# Altium footprint library My_Custom.PcbLib: 12 footprints
Each footprint in its own frame and in the unit in brackets; x right, y up, seen from the top. Pads: shape width x height; smd on the part's side, far side on the other; paste and mask are expansions set on the pad; w line width, h text height; cw(c..) or ccw(c..) is an arc to the next point about the centre after c.
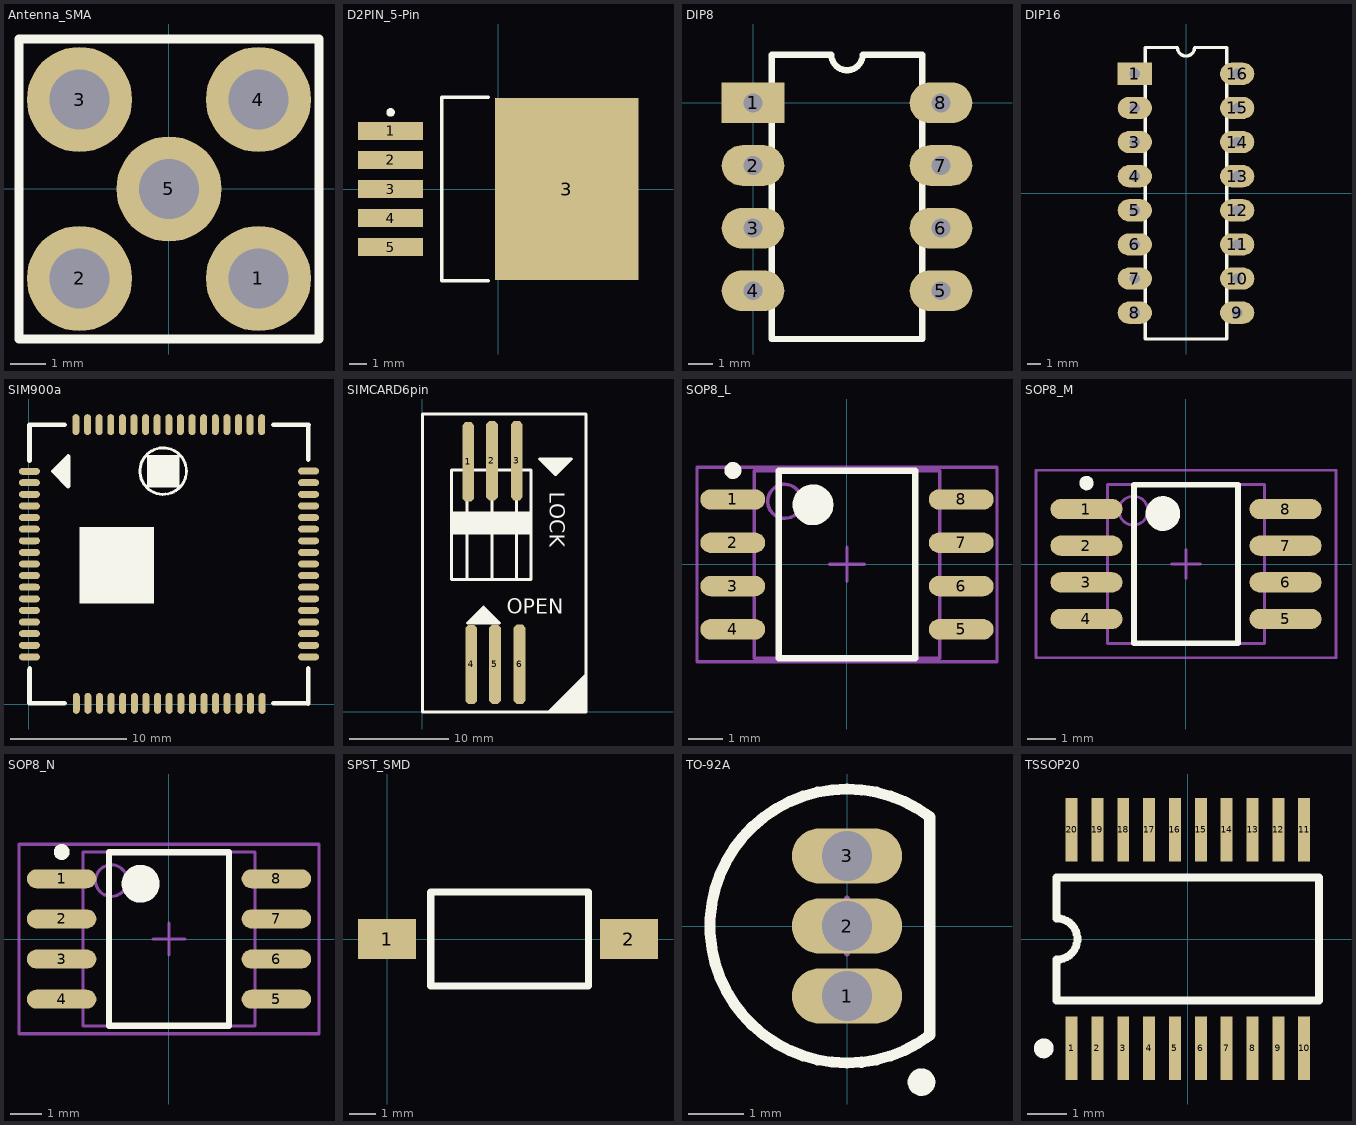
[diagram p0: the footprints below, top view; thin cyan lines are the x and y axes]

## Antenna_SMA [mm]
pads (5):
  round 3 hole 1.7: 1(2.55,-2.55) 2(-2.55,-2.55) 3(-2.55,2.55) 4(2.55,2.55) 5(0,0)
Top Overlay:
  lines w0.254: -4.275,-4.275 4.275,-4.275 4.275,4.275 -4.275,4.275 -4.275,-4.275
3D body "TE_5-1814832-1.STEP": height 9.5, standoff -4, extent -3.2,-3.2 3.2,3.2

## D2PIN_5-Pin [mm]
pads (6):
  rect 3.8x1.05 smd: 1(-6.3,3.4) 2(-6.3,1.7) 3(-6.3,0) 4(-6.3,-1.7) 5(-6.3,-3.4)
  rect 8.4x10.65 smd: 3(4,0)
Top Overlay:
  circle w0.25: c-6.3,4.475 r0.125
  lines w0.2: -0.6,-5.35 -3.3,-5.35 -3.3,5.35 -0.6,5.35
3D body "SW3dPS-TO263-5.STEP": height 4.68, standoff -0.12, extent -7.515,-4.975 8.155,5.025

## DIP8 [mil]
pads (8):
  rect 100x65 hole 30: 1(0,0)
  oval 100x65 hole 30: 2(0,-100) 3(0,-200) 4(0,-300) 5(300,-300) 6(300,-200) 7(300,-100) 8(300,0)
Top Overlay:
  lines w10: 30,-377 30,77 125,77 ccw(c150,77) 175,77 270,77 270,-377 30,-377
3D body "SW3DPS-DIP8-DEFAULT.step": height 165, standoff -105, extent -5,-375 305,75

## DIP16 [mil]
pads (16):
  rect 100x65 hole 30: 1(-150,350)
  oval 100x65 hole 30: 2(-150,250) 3(-150,150) 4(-150,50) 5(-150,-50) 6(-150,-150) 7(-150,-250) 8(-150,-350) 9(150,-350) 10(150,-250) 11(150,-150) 12(150,-50) 13(150,50) 14(150,150) 15(150,250) 16(150,350)
Top Overlay:
  lines w10: -120,-427 -120,427 -25,427 ccw(c0,427) 25,427 120,427 120,-427 -120,-427
3D body "SW3dPS-DIP16-300.step": height 200, standoff -98.03, extent -154.92,-393.7 154.92,393.7

## SIM900a [mm]
height 24
pads (68):
  oval 1.8x0.6 smd mask+0.102: 1(0.05,20.046) 2(0.05,19.065) 3(0.05,18.065) 4(0.05,17.065) 5(0.05,16.065) 6(0.05,15.065) 7(0.05,14.065) 8(0.05,13.065) 9(0.05,12.065) 10(0.05,11.065) 11(0.05,10.065) 12(0.05,9.065) 13(0.05,8.065) 14(0.05,7.065) 15(0.05,6.065) 16(0.05,5.065) 17(0.05,4.065) 35(24.08,4.065) 36(24.08,5.065) 37(24.08,6.065) 38(24.08,7.065) 39(24.08,8.065) 40(24.08,9.065) 41(24.08,10.065) 42(24.08,11.065) 43(24.08,12.065) 44(24.08,13.065) 45(24.08,14.059) 46(24.08,15.065) 47(24.08,16.065) 48(24.08,17.065) 49(24.08,18.065) 50(24.08,19.065) 51(24.08,20.065)
  oval 0.6x1.8 smd mask+0.102: 18(4.08,0.065) 19(5.08,0.065) 20(6.08,0.065) 21(7.081,0.065) 22(8.081,0.065) 23(9.081,0.065) 24(10.081,0.065) 25(11.081,0.065) 26(12.081,0.065) 27(13.081,0.065) 28(14.081,0.065) 29(15.081,0.065) 30(16.081,0.065) 31(17.075,0.065) 32(18.081,0.065) 33(19.081,0.065) 34(20.081,0.065) 52(20.05,24.065) 53(19.05,24.065) 54(18.05,24.065) 55(17.05,24.065) 56(16.05,24.065) 57(15.05,24.065) 58(14.05,24.065) 59(13.049,24.065) 60(12.049,24.065) 61(11.049,24.065) 62(10.049,24.065) 63(9.049,24.065) 64(8.049,24.065) 65(7.049,24.065) 66(6.049,24.065) 67(5.049,24.065) 68(4.049,24.065)
Top Overlay:
  circle w0.254: c11.565,20.065 r2
  rectangle: 4.365,8.665 10.765,15.265
  rectangle: 10.165,18.665 12.965,21.465
  lines w0.4: 0.05,2.965 0.05,0.065 3.065,0.065 ; 0.05,20.965 0.05,24.065 3.065,24.065 0.065,24.065 0.065,21.065 ; 0.065,0.08 0.065,3.065 ; 2.632,19.539 2.632,20.505 ; 3.019,19.164 3.019,20.942 ; 3.394,20.047 2.124,20.047 ; 21.065,0.065 24.05,0.065 24.05,2.965 ; 24.031,24.065 21.065,24.065 24.08,24.065 ; 24.05,21.165 24.05,24.065 ; 24.065,0.05 24.065,3.065 ; 24.065,21.065 24.065,24.05 ; 2.124,20.047 3.394,18.777 3.394,21.317 2.124,20.047 ; 4.781,9.265 10.38,9.265 10.38,14.865 4.781,14.865 4.781,9.265
3D body "User Library-SIM900.STEP": height 3.02, standoff 0, extent 0.04,0.065 24.04,24.065

## SIMCARD6pin [mm]
height 7.1
pads (6):
  oct 1.2x8 smd: 1(4.637,25.173) 2(7.015,25.297) 3(9.515,25.297) 4(4.937,4.773) 5(7.315,4.797) 6(9.815,4.797)
Top Overlay:
  region: 11.016,17.864 11.016,20.165 2.964,20.165 2.964,17.864
  region: 16.513,-0.003 16.513,2.673 15.337,2.673 15.337,-0.003
  region: 15.717,-0.003 15.717,1.673 14.317,1.673 14.317,-0.003
  region: 14.537,-0.003 14.537,0.773 13.337,0.773 13.337,-0.003
  region: 16.513,2.573 16.513,3.373 15.937,3.373 15.937,2.573
  region: 16.237,2.473 16.237,2.973 15.537,2.973 15.537,2.473
  region: 16.037,2.873 16.037,3.073 15.837,3.073 15.837,2.873
  region: 16.513,3.353 16.513,3.477 16.237,3.477 16.237,3.353
  region: 15.637,1.593 15.637,2.193 14.737,2.193 14.737,1.593
  region: 15.537,2.093 15.537,2.493 15.037,2.493 15.037,2.093
  region: 14.937,1.493 14.937,1.817 14.537,1.817 14.537,1.493
  region: 14.937,1.797 14.937,1.897 14.637,1.897 14.637,1.797
  region: 13.637,-0.003 13.637,0.473 13.037,0.473 13.037,-0.003
  region: 14.437,0.473 14.437,1.173 13.937,1.173 13.937,0.473
  region: 14.137,0.553 14.137,0.953 13.637,0.953 13.637,0.553
  region: 14.537,0.773 14.537,1.473 14.213,1.473 14.213,0.773
  region: 14.213,0.773 14.213,1.297 14.037,1.297 14.037,0.773
  region: 14.037,0.753 14.037,1.053 13.813,1.053 13.813,0.753
  lines w0.254: 12.737,-0.003 16.513,3.773 ; 12.837,-0.003 12.861,-0.003
  lines w0.3: 4.512,13.346 4.512,24.346 ; 5.012,9.161 7.313,9.161 6.263,10.211 6.113,10.211 5.213,9.311 ; 5.363,9.311 6.813,9.311 ; 5.613,9.511 6.663,9.511 6.713,9.561 ; 5.663,9.661 6.263,9.661 6.363,9.761 ; 5.863,9.811 6.163,9.811 6.213,9.861 ; 6.063,10.011 6.113,10.011 ; 6.263,9.961 6.563,9.661 ; 7.013,13.346 7.013,24.346 ; 9.513,13.346 9.513,24.346 ; 12.761,25.135 14.211,25.135 ; 12.861,24.885 12.911,24.935 13.961,24.935 ; 13.011,24.785 13.311,24.485 ; 13.211,24.685 13.311,24.785 13.911,24.785 ; 13.361,24.585 13.411,24.635 13.711,24.635 ; 13.461,24.435 13.511,24.435 ; 14.361,25.135 13.461,24.235 13.311,24.235 12.261,25.285 14.562,25.285 ; 0.013,-0.003 16.513,-0.003 16.513,29.997 0.013,29.997 0.013,-0.003 ; 2.964,13.346 10.964,13.346 10.964,24.346 2.964,24.346 2.964,13.346 ; 4.562,8.961 7.763,8.961 6.163,10.562 4.562,8.961 ; 11.811,25.485 13.411,23.884 15.012,25.485 11.811,25.485
  text "OPEN" at 8.509,9.906 h1.52
  text "LOCK" at 12.837,22.173 h1.52

## SOP8_L [mm] "SOP, 8-Leads, Body 5.3x5.3mm, Pitch 1.27mm, IPC High Density"
height 2.16
pads (8):
  oval 1.9x0.6 smd: 1(-3.35,1.905) 2(-3.35,0.635) 3(-3.35,-0.635) 4(-3.35,-1.905) 5(3.35,-1.905) 6(3.35,-0.635) 7(3.35,0.635) 8(3.35,1.905)
Top Overlay:
  circle w0.6: c-1,1.75 r0.3
  circle w0.25: c-3.35,2.755 r0.125
  lines w0.2: -2,-2.75 2,-2.75 2,2.75 -2,2.75 -2,-2.75
Mechanical 13:
  circle w0.1: c-1.825,1.85 r0.5
  lines w0.1: -2.725,-2.75 2.725,-2.75 2.725,2.75 -2.725,2.75 -2.725,-2.75
Mechanical 15:
  lines w0.1: -0.5,0 0.5,0 ; 0,-0.5 0,0.5 ; -4.4,-2.85 4.4,-2.85 4.4,2.85 -4.4,2.85 -4.4,-2.85
3D body "User Library-SOP8.STEP": height 1.75, standoff 0, extent -3.1,-2.5 3.1,2.5

## SOP8_M [mm] "SOP, 8-Leads, Body 5.3x5.3mm, Pitch 1.27mm, IPC Low Density"
height 2.16
pads (8):
  oval 2.5x0.7 smd: 1(-3.45,1.905) 2(-3.45,0.635) 3(-3.45,-0.635) 4(-3.45,-1.905) 5(3.45,-1.905) 6(3.45,-0.635) 7(3.45,0.635) 8(3.45,1.905)
Top Overlay:
  circle w0.25: c-3.45,2.805 r0.125
  circle w0.6: c-0.8,1.75 r0.3
  lines w0.2: -1.8,-2.75 -1.8,2.75 1.8,2.75 1.8,-2.75 -1.8,-2.75
Mechanical 13:
  circle w0.1: c-1.825,1.85 r0.5
  lines w0.1: -2.725,-2.75 -2.725,2.75 2.725,2.75 2.725,-2.75 -2.725,-2.75
Mechanical 15:
  lines w0.1: -0.5,0 0.5,0 ; 0,-0.5 0,0.5 ; -5.2,-3.25 -5.2,3.25 5.2,3.25 5.2,-3.25 -5.2,-3.25
3D body "User Library-SOP8.STEP": height 1.75, standoff 0, extent -3.1,-2.5 3.1,2.5

## SOP8_N [mm] "SOP, 8-Leads, Body 5.3x5.3mm, Pitch 1.27mm, IPC Medium Density"
height 2.16
pads (8):
  oval 2.2x0.6 smd: 1(-3.4,1.905) 2(-3.4,0.635) 3(-3.4,-0.635) 4(-3.4,-1.905) 5(3.4,-1.905) 6(3.4,-0.635) 7(3.4,0.635) 8(3.4,1.905)
Top Overlay:
  circle w0.25: c-3.4,2.755 r0.125
  circle w0.6: c-0.9,1.75 r0.3
  lines w0.2: -1.9,-2.75 -1.9,2.75 1.9,2.75 1.9,-2.75 -1.9,-2.75
Mechanical 13:
  circle w0.1: c-1.825,1.85 r0.5
  lines w0.1: -2.725,-2.75 -2.725,2.75 2.725,2.75 2.725,-2.75 -2.725,-2.75
Mechanical 15:
  lines w0.1: -0.5,0 0.5,0 ; 0,-0.5 0,0.5 ; -4.75,-3 -4.75,3 4.75,3 4.75,-3 -4.75,-3
3D body "User Library-SOP8.STEP": height 1.75, standoff 0, extent -3.1,-2.5 3.1,2.5

## SPST_SMD [mm]
pads (2):
  rect 2.2x1.52 smd: 1(0,0) 2(9.144,0)
Top Overlay:
  lines w0.271: 1.651,-1.778 1.651,1.778 7.62,1.778 7.62,-1.778 1.651,-1.778

## TO-92A [mm]
pads (3):
  oval 2x1 hole 0.9: 1(0,-1.27) 2(0,0) 3(0,1.27)
Top Overlay:
  circle w0.25: c1.35,-2.83 r0.125
  lines w0.2: 1.5,-1.98 cw(c0,0) 1.5,1.98 1.5,-1.98
Mechanical 13:
  lines w0.1: 1.5,-1.98 cw(c0,0) 1.5,1.98 1.5,-1.98
Mechanical 15:
  lines w0.1: -0.5,0 0.5,0 ; 0,-0.5 0,0.5
3D body: height 6.86, standoff 2.2, extent -2.485,-2.495 1.501,2.495

## TSSOP20 [mm] "Shrink Small Outline; 20 Leads; Body Width 4.4 mm; Pitch 0.65 mm"
height 1.1
pads (20):
  rect 0.3x1.6 smd: 1(-2.925,-2.75) 2(-2.275,-2.75) 3(-1.625,-2.75) 4(-0.975,-2.75) 5(-0.325,-2.75) 6(0.325,-2.75) 7(0.975,-2.75) 8(1.625,-2.75) 9(2.275,-2.75) 10(2.925,-2.75) 11(2.925,2.75) 12(2.275,2.75) 13(1.625,2.75) 14(0.975,2.75) 15(0.325,2.75) 16(-0.325,2.75) 17(-0.975,2.75) 18(-1.625,2.75) 19(-2.275,2.75) 20(-2.925,2.75)
Top Overlay:
  circle w0.25: c-3.625,-2.75 r0.125
  lines w0.2: -3.3,-1.55 3.3,-1.55 3.3,1.55 -3.3,1.55 -3.3,0.52 cw(c-3.3,0) -3.3,-0.52 -3.3,-1.55